# Altium footprint library HT7833.PcbLib: 1 footprints
Each footprint in its own frame and in the unit in brackets; x right, y up, seen from the top. Pads: shape width x height; smd on the part's side, far side on the other; paste and mask are expansions set on the pad; w line width, h text height; cw(c..) or ccw(c..) is an arc to the next point about the centre after c.
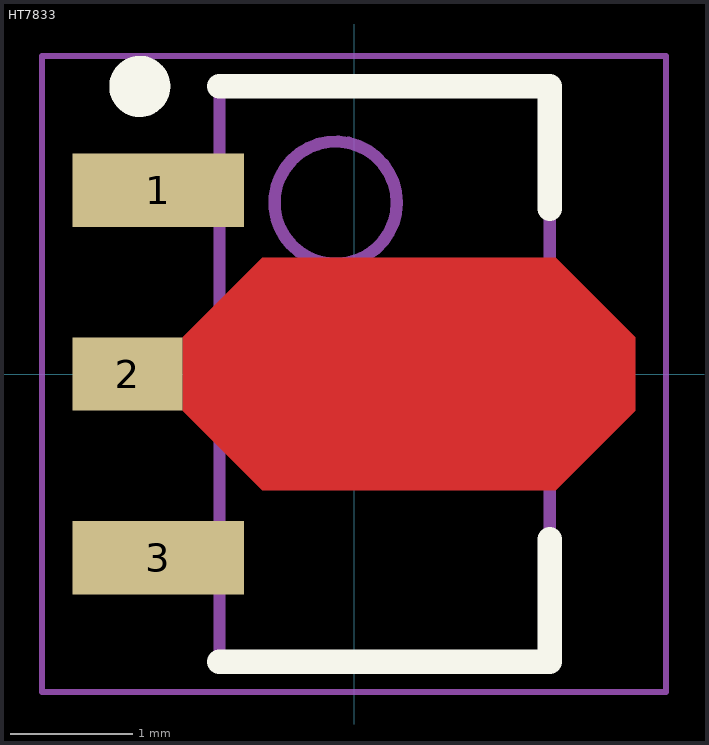
[diagram p0: the footprint, top view; thin cyan lines are the x and y axes]

## HT7833 [mm] "SOT89, 3-Leads"
height 1.6
pads (3):
  rect 1.4x0.6 smd: 1(-1.6,1.5) 3(-1.6,-1.5)
  rect 0.9x0.6 smd: 2(-1.85,0)
Top Layer:
  region: -1.4,0.3 -0.75,0.95 1.65,0.95 2.3,0.3 2.3,-0.3 1.65,-0.95 -0.75,-0.95 -1.4,-0.3
Top Overlay:
  circle w0.25: c-1.75,2.35 r0.125
  lines w0.2: -1.1,-2.35 1.6,-2.35 1.6,-1.35 ; -1.1,2.35 1.6,2.35 1.6,1.35
Mechanical 13:
  circle w0.1: c-0.15,1.4 r0.5
  lines w0.1: -1.1,-2.35 1.6,-2.35 1.6,2.35 -1.1,2.35 -1.1,-2.35
Mechanical 15:
  lines w0.05: -2.55,-2.6 2.55,-2.6 2.55,2.6 -2.55,2.6 -2.55,-2.6
  lines w0.1: -0.25,0 0.75,0 ; 0.25,-0.5 0.25,0.5
3D body "SOT89-150P350X160-3N.step": height 1.6, standoff 0, extent -2.25,-2.347 2.15,2.347